# Altium footprint library AMPHENOL_10129378-910002BLF.PcbLib: 1 footprints
Each footprint in its own frame and in the unit in brackets; x right, y up, seen from the top. Pads: shape width x height; smd on the part's side, far side on the other; paste and mask are expansions set on the pad; w line width, h text height; cw(c..) or ccw(c..) is an arc to the next point about the centre after c.
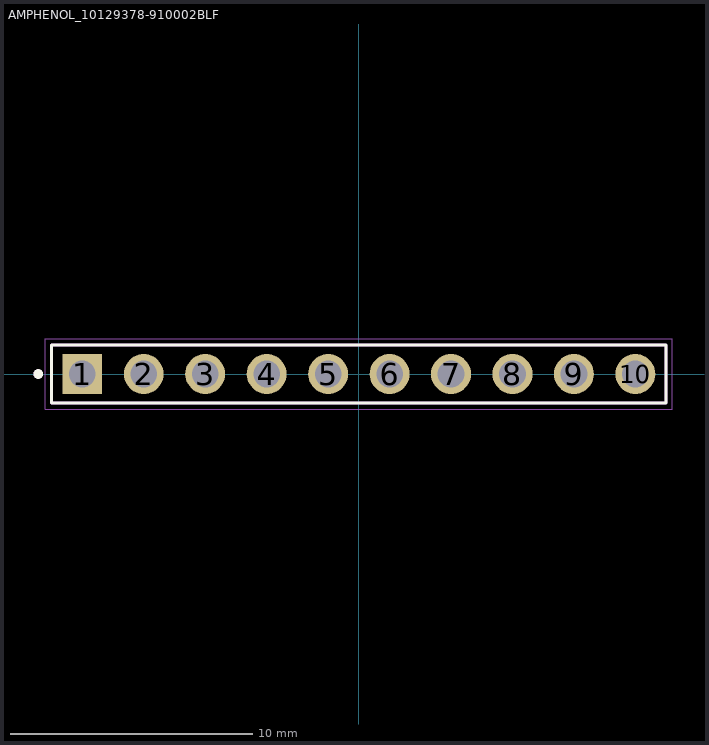
[diagram p0: the footprint, top view; thin cyan lines are the x and y axes]

## AMPHENOL_10129378-910002BLF [mm]
height 10.82
pads (10):
  rect 1.65x1.65 / inner round 1.65 / far side rect 1.65x1.65 hole 1.1: 1(-11.43,0)
  round 1.65 hole 1.1: 2(-8.89,0) 3(-6.35,0) 4(-3.81,0) 5(-1.27,0) 6(1.27,0) 7(3.81,0) 8(6.35,0) 9(8.89,0) 10(11.43,0)
Top Overlay:
  circle w0.2: c-13.25,0 r0.1
  lines w0.127: -12.7,-1.205 12.7,-1.205 12.7,1.205 -12.7,1.205 -12.7,-1.205
Mechanical 13:
  circle w0.2: c-13.25,0 r0.1
  lines w0.127: -12.7,-1.205 12.7,-1.205 12.7,1.205 -12.7,1.205 -12.7,-1.205
Mechanical 15:
  lines w0.05: -12.95,-1.455 12.95,-1.455 12.95,1.455 -12.95,1.455 -12.95,-1.455
3D body "step_temp.STEP": height 8.18, standoff -2.49, extent -12.7,-1.205 12.7,1.205